# Altium schematic symbol library EDP_schematic.SchLib: 41 symbols (part 1 of 2)
Pins are listed as number, name and electrical type; pins without a type are passive.

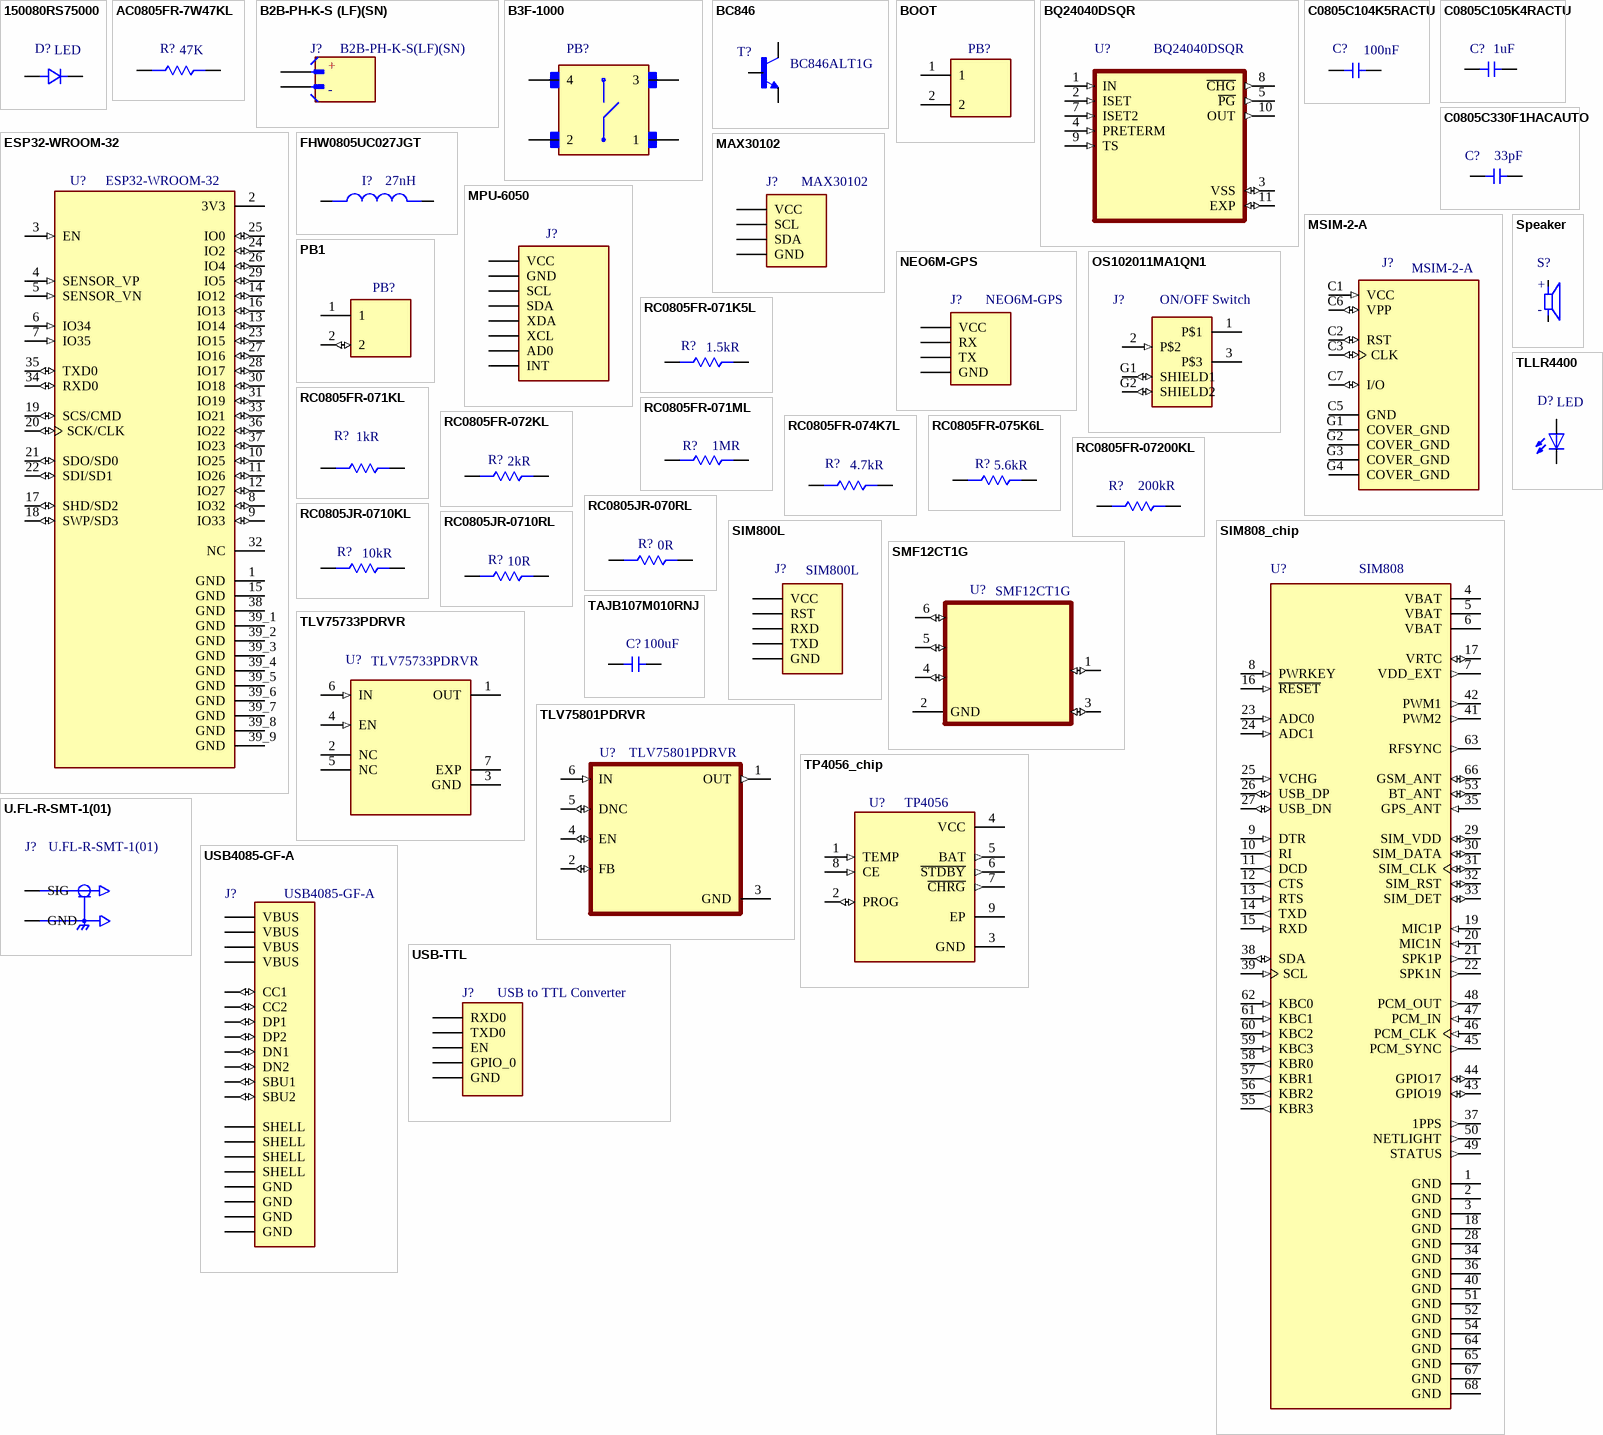
[diagram p0: symbols 150080RS75000 to USB-TTL]

## 150080RS75000
designator D?, comment LED
Single Color LED, Red, Water Clear, 1.4mm; Manufacturer: Wurth Electronics; Manufacturer Part Number: 150080RS75000; Shape: Rectangular; Forward Current: 30mA; Luminous Intensity-Nom: 150mcd; Channels: 1; Viewing Angle: 140°; Overall Height: 0.7mm; Supplier: Digikey; Supplier Part Number: 732-4984-1-ND; RoHS: Yes; Category: LEDs; Stock: 56216; Pricing: 1=0.19, 50=0.176, 100=0.151, 500=0.14688 (USD); Mounting Technology: Surface Mount; Pins: 2; Color: Red; Min Operating Temperature: -40°C; Max Operating Temperature: 85°C; Lens Style: WATER CLEAR; Optoelectronic Device Type: SINGLE COLOR LED; Packaging: Tape and Reel; Size: 1.4mm; Terminal Pitch: 2.1mm; Reach SVHC Compliant: Yes; RoHS Compliant: Yes; ComponentLink1URL: https://datasheet.ciiva.com:443/pdfs/VipMasterIC/IC/MIDC/MIDC-S-A0007455974/MIDC-S-A0007455974-1.pdf?src-supplier=IHS+Markit; ComponentLink1Description: https://datasheet.ciiva.com:443/pdfs/VipMasterIC/IC/MIDC/MIDC-S-A0007455974/MIDC-S-A0007455974-1.pdf?src-supplier=IHS+Markit; ComponentLink2URL: https://datasheet.ciiva.com/22656/150080rs75000-22656961.pdf?src-supplier=Element14; ComponentLink2Description: https://datasheet.ciiva.com/22656/150080rs75000-22656961.pdf?src-supplier=Element14; ComponentLink3URL: https://datasheet.ciiva.com/29279/759435-da-01-en-chipled-0805-w-kl-rot-150080rs75000-29279032.pdf?src-supplier=Conrad; ComponentLink3Description: https://datasheet.ciiva.com/29279/759435-da-01-en-chipled-0805-w-kl-rot-150080rs75000-29279032.pdf?src-supplier=Conrad
footprint 150080RS75000
pins: 1, 2

## AC0805FR-7W47KL
designator R?  value 47K  (hidden comment: *)
Fixed Resistor, Metal Glaze/thick Film, 0.25W, 47000ohm, 150V, 1% +/-Tol, 100ppm/Cel, Surface Mount, 0805; Manufacturer: Yageo; Manufacturer Part Number: AC0805FR-7W47KL; Supplier: Digikey; Supplier Part Number: 13-AC0805FR-7W47KLCT-ND; RoHS: Yes; Category: Chip SMD Resistors; Stock: 9947; Pricing: 1=0.1, 10=0.037, 100=0.0286, 1000=0.01428 (USD)
footprint AC0805FR-7W47KL
pins: 1, 2

## B2B-PH-K-S (LF)(SN)
designator J?  Manufacturer Part Number: B2B-PH-K-S(LF)(SN)  (hidden comment: *)
Board Connector, 2 Contact(s), 1 Row(s), Male, Straight, 0.079 inch Pitch, Solder Terminal, Locking, Natural Insulator; Manufacturer: JST; Supplier: Arrow Electronics; Supplier Part Number: B2B-PH-K-S(LF)(SN); RoHS: Yes; Category: Headers and Wire Housings; Stock: 109655; Pricing: 1=0.1137, 10=0.0604, 25=0.0597, 100=0.0592, 500=0.0585, 1000=0.0562 (USD); ComponentLink1URL: https://datasheet.ciiva.com:443/pdfs/VipMasterIC/IC/JSTM/JSTM-S-A0007943211/JSTM-S-A0007943211-1.pdf?src-supplier=IHS+Markit; ComponentLink1Description: https://datasheet.ciiva.com:443/pdfs/VipMasterIC/IC/JSTM/JSTM-S-A0007943211/JSTM-S-A0007943211-1.pdf?src-supplier=IHS+Markit; ComponentLink2URL: https://datasheet.ciiva.com/11746/0900766b8082f551-11746676.pdf?src-supplier=Rs; ComponentLink2Description: https://datasheet.ciiva.com/11746/0900766b8082f551-11746676.pdf?src-supplier=Rs; ComponentLink3URL: https://datasheet.ciiva.com/16422/b2b-ph-k-slfsn-16422715.pdf?src-supplier=Future+Electronics; ComponentLink3Description: https://datasheet.ciiva.com/16422/b2b-ph-k-slfsn-16422715.pdf?src-supplier=Future+Electronics
footprint B2B-PH-K-S (LF)(SN)
pins: 1, 2
text: +; -

## B3F-1000
designator PB?  (value not drawn)
footprint SW_B3F-1000
pins: 1, 2, 3, 4

## BC846
designator T?  Manufacturer Part Number: BC846ALT1G  (hidden comment: *)
Small Signal Bipolar Transistor, 0.1A I(C), 65V V(BR)CEO, 1-Element, NPN, Silicon, TO-236; Manufacturer: ON Semiconductor; Package Body Material: Plastic; Max Collector Current: 100mA; DC Current Gain-Min (hFE): 110; Number of Elements: 1; Frequency: 100MHz; Power Dissipation-Max (Abs): 225mW; Time @ Peak Reflow Temperature-Max (s): 40s; Transistor Application: SWITCHING; Qualification Status: Not Qualified; Supplier: Digikey; Supplier Part Number: BC846ALT1GOSCT-ND; RoHS: Yes; Category: BJTs; Stock: 87741; Pricing: 1=0.12, 10=0.075, 100=0.0458, 500=0.03304, 1000=0.02888 (USD); Pins: 3; Package Shape: Rectangular; Terminal Finish: Tin; Transistor Element Material: SILICON; Max Operating Temperature: 150°C; JESD-609 Code: e3; JESD-30 Code: R-PDSO-G3; Surface Mount: Yes; Terminal Form: Gull Wing; Terminal Position: DUAL; Polarity/Channel Type: NPN; Collector-emitter Voltage-Max: 65V; Moisture Sensitivity Level: 1; Package Style: SMALL OUTLINEMeter; Peak Reflow Temperature (Cel): 260°C; Reach SVHC Compliant: Yes; RoHS Compliant: Yes; JEDEC-95 Code: TO-236; ComponentLink1URL: https://datasheet.ciiva.com:443/pdfs/VipMasterIC/IC/ONSM/ONSM-S-A0009451914/ONSM-S-A0009451914-1.pdf?src-supplier=IHS+Markit; ComponentLink1Description: https://datasheet.ciiva.com:443/pdfs/VipMasterIC/IC/ONSM/ONSM-S-A0009451914/ONSM-S-A0009451914-1.pdf?src-supplier=IHS+Markit
footprint BC846
pins: 1 B, 2 E, 3 C

## BOOT
designator PB?  (value not drawn)
footprint PB1
pins: 1 (power), 2 (power)

## BQ24040DSQR
designator U?  Manufacturer Part Number: BQ24040DSQR  (hidden comment: *)
Power Supply Support Circuit, Adjustable, 1 Channel, 6.65, PDSO10; Manufacturer: Texas Instruments; Package Body Material: Plastic; Adjustable Threshold: Yes; Number of Channels: 1; Power Supplies: 4.5/28V; Supply Current-Max (Isup): 1mA; Max Supply Voltage: 28V; Min Supply Voltage: 3.5V; Nominal Supply Voltage: 5V; Qualification Status: Not Qualified; Supplier: Digikey; Supplier Part Number: 296-37142-1-ND; RoHS: Yes; Category: Battery Management; Stock: 7921; Pricing: 1=0.78, 10=0.556, 25=0.4996, 100=0.4382, 250=0.4088, 500=0.39106, 1000=0.37649 (USD); Case/Package: HVSON; Pins: 10; Package Shape: Square; Terminal Finish: Nickel; Min Operating Temperature: -40°C; Max Operating Temperature: 85°C; JESD-609 Code: e4; Throw Configuration: POWER SUPPLY SUPPORT CIRCUIT; JESD-30 Code: S-PDSO-N10; Moisture Sensitivity Level: 2; Channels: 1; Package Style: SMALL OUTLINE, HEAT SINK/SLUG, VERY THIN PROFILEMeter; Peak Reflow Temperature (Cel): 260°C; Surface Mount: Yes; Terminal Form: No Lead; Terminal Position: DUAL; Length: 2mm; Width: 2mm; Height - Seated (Max): 0.8mm; Terminal Pitch: 0.4mm; Temperature Grade: INDUSTRIAL; Reach SVHC Compliant: Yes; RoHS Compliant: Yes; ComponentLink1URL: https://www.ti.com:443/lit/ds/symlink/bq24040.pdf?src-supplier=IHS+Markit; ComponentLink1Description: https://www.ti.com:443/lit/ds/symlink/bq24040.pdf?src-supplier=IHS+Markit; ComponentLink2URL: https://datasheet.ciiva.com/29610/bq24040-29610101.pdf?src-supplier=Digikey; ComponentLink2Description: https://datasheet.ciiva.com/29610/bq24040-29610101.pdf?src-supplier=Digikey; ComponentLink3URL: https://datasheet.ciiva.com/29610/bq24040-29610103.pdf?src-supplier=Digikey; ComponentLink3Description: https://datasheet.ciiva.com/29610/bq24040-29610103.pdf?src-supplier=Digikey; ComponentLink4URL: https://datasheet.ciiva.com/29610/bq24040-29610104.pdf?src-supplier=Digikey; ComponentLink4Description: https://datasheet.ciiva.com/29610/bq24040-29610104.pdf?src-supplier=Digikey
footprint BQ24040DSQR
pins: 1 IN (in), 2 ISET (in), 3 VSS (io), 4 PRETERM (in), 5 ~{PG} (out), 7 ISET2 (in), 8 ~{CHG} (out), 9 TS (in), 10 OUT (out), 11 EXP (io)

## C0805C104K5RACTU
designator C?  value 100nF  (hidden comment: *)
Ceramic Capacitor, Multilayer, Ceramic, 50V, 10% +Tol, 10% -Tol, X7R, 15% TC, 0.1uF, Surface Mount, 0805; Manufacturer: KEMET; Manufacturer Part Number: C0805C104K5RACTU; Multilayer: Yes; Supplier: Digikey; Supplier Part Number: 399-C0805C104K5RACTUTR-ND; RoHS: Yes; Category: Ceramic Capacitors; Stock: 495390; Pricing: 4000=0.0224, 8000=0.016, 12000=0.0148 (USD); Mounting Technology: Surface Mount; Pins: 2; Dielectric Material: Ceramic; Package Shape: Rectangular; Case/Package: 0805; Terminal Finish: Nickel; Min Operating Temperature: -55°C; Max Operating Temperature: 125°C; JESD-609 Code: e3; Capacitor Type: Ceramic; Tolerance  (fill in as +-): 10%; Package Style: SMTMeter; Packaging: Tape and Reel; Tolerance (fill in as +-): 10%; Rated DC Voltage (URdc): 50V; Temperature Characteristics Code: X7R; Termination: Wraparound; Length: 2mm; Width: 1.25mm; Height: 0.78mm; Reach SVHC Compliant: Yes; RoHS Compliant: Yes; ComponentLink1URL: https://datasheet.ciiva.com:443/pdfs/VipMasterIC/IC/KEME/KEME-S-A0008991654/KEME-S-A0008991654-1.pdf?src-supplier=IHS+Markit; ComponentLink1Description: https://datasheet.ciiva.com:443/pdfs/VipMasterIC/IC/KEME/KEME-S-A0008991654/KEME-S-A0008991654-1.pdf?src-supplier=IHS+Markit; ComponentLink2URL: https://datasheet.ciiva.com/32431/slceramic-chip-condensers-e-32431755.pdf?src-supplier=Distrelec; ComponentLink2Description: https://datasheet.ciiva.com/32431/slceramic-chip-condensers-e-32431755.pdf?src-supplier=Distrelec; ComponentLink3URL: https://datasheet.ciiva.com/28682/1851736-28682232.pdf?src-supplier=Element14; ComponentLink3Description: https://datasheet.ciiva.com/28682/1851736-28682232.pdf?src-supplier=Element14; ComponentLink4URL: https://datasheet.ciiva.com/18410/70095383-18410815.pdf?src-supplier=Allied+Electronics; ComponentLink4Description: https://datasheet.ciiva.com/18410/70095383-18410815.pdf?src-supplier=Allied+Electronics; ComponentLink5URL: https://datasheet.ciiva.com/14589/70095383-14589048.pdf?src-supplier=Allied+Electronics; ComponentLink5Description: https://datasheet.ciiva.com/14589/70095383-14589048.pdf?src-supplier=Allied+Electronics
footprint C0805C104K5RACTU
pins: 1, 2

## C0805C105K4RACTU
designator C?  value 1uF  (hidden comment: *)
Ceramic Capacitor, Multilayer, Ceramic, 16V, 10% +Tol, 10% -Tol, X7R, 15% TC, 1uF, Surface Mount, 0805; Manufacturer: KEMET; Manufacturer Part Number: C0805C105K4RACTU; Multilayer: Yes; Supplier: Digikey; Supplier Part Number: 399-C0805C105K4RACTUCT-ND; RoHS: Yes; Category: Ceramic Capacitors; Stock: 386670; Pricing: 1=0.12, 10=0.068, 100=0.041, 1000=0.03184 (USD); Mounting Technology: Surface Mount; Pins: 2; Dielectric Material: Ceramic; Package Shape: Rectangular; Case/Package: 0805; Terminal Finish: Nickel; Min Operating Temperature: -55°C; Max Operating Temperature: 125°C; JESD-609 Code: e3; Capacitor Type: Ceramic; Tolerance  (fill in as +-): 10%; Packaging: Tape and Reel; Tolerance (fill in as +-): 10%; Rated DC Voltage (URdc): 16V; Temperature Characteristics Code: X7R; Termination: Wraparound; Package Style: SMTMeter; Length: 2mm; Width: 1.25mm; Height: 0.9mm; Reach SVHC Compliant: Yes; RoHS Compliant: Yes; ComponentLink1URL: https://datasheet.ciiva.com:443/pdfs/VipMasterIC/IC/KEME/KEME-S-A0008991654/KEME-S-A0008991654-1.pdf?src-supplier=IHS+Markit; ComponentLink1Description: https://datasheet.ciiva.com:443/pdfs/VipMasterIC/IC/KEME/KEME-S-A0008991654/KEME-S-A0008991654-1.pdf?src-supplier=IHS+Markit; ComponentLink2URL: https://datasheet.ciiva.com/6074/1722731-6074364.pdf?src-supplier=Farnell; ComponentLink2Description: https://datasheet.ciiva.com/6074/1722731-6074364.pdf?src-supplier=Farnell; ComponentLink3URL: https://datasheet.ciiva.com/28692/1851736-28692942.pdf?src-supplier=Element14; ComponentLink3Description: https://datasheet.ciiva.com/28692/1851736-28692942.pdf?src-supplier=Element14; ComponentLink4URL: https://datasheet.ciiva.com/14585/70095383-14585511.pdf?src-supplier=Allied+Electronics; ComponentLink4Description: https://datasheet.ciiva.com/14585/70095383-14585511.pdf?src-supplier=Allied+Electronics; ComponentLink5URL: https://datasheet.ciiva.com/14603/70095383-14603388.pdf?src-supplier=Allied+Electronics; ComponentLink5Description: https://datasheet.ciiva.com/14603/70095383-14603388.pdf?src-supplier=Allied+Electronics; ComponentLink6URL: https://datasheet.ciiva.com/45846/docfinderpartnumberc0402c102k5ractu-45846934.pdf?src-supplier=Onlinecomponents.com; ComponentLink6Description: https://datasheet.ciiva.com/45846/docfinderpartnumberc0402c102k5ractu-45846934.pdf?src-supplier=Onlinecomponents.com
footprint C0805C105K4RACTU
pins: 1, 2

## C0805C330F1HACAUTO
designator C?  value 33pF  (hidden comment: *)
Ceramic Capacitor, Multilayer, Ceramic, 100V, 1% +Tol, 1% -Tol, X8R, 15% TC, 0.000033uF, Surface Mount, 0805; Manufacturer: KEMET; Manufacturer Part Number: C0805C330F1HACAUTO; Supplier: Digikey; Supplier Part Number: C0805C330F1HACAUTO-ND; RoHS: Yes; Category: Ceramic Capacitors; Pricing: 4000=0.05843 (USD); Pins: 2; Dielectric Material: Ceramic; Capacitor Type: Ceramic; Reach SVHC Compliant: Yes; RoHS Compliant: Yes; ComponentLink1URL: https://datasheet.ciiva.com:443/pdfs/VipMasterIC/IC/KEME/KEME-S-A0008958458/KEME-S-A0008958458-1.pdf?src-supplier=IHS+Markit; ComponentLink1Description: https://datasheet.ciiva.com:443/pdfs/VipMasterIC/IC/KEME/KEME-S-A0008958458/KEME-S-A0008958458-1.pdf?src-supplier=IHS+Markit
footprint C0805C330F1HACAUTO
pins: 1, 2

## ESP32-WROOM-32
designator U?
Bluetooth, WiFi 802.11b/g/n, Bluetooth v4.2 +EDR, Class 1, 2 and 3 Transceiver Module 2.4GHz ~ 2.5GHz Antenna Not Included, U.FL Surface Mount
footprint ESP32-WROOM-32_chip
pins: 1 GND (power), 2 3V3 (power), 3 EN (in), 4 SENSOR_VP (in), 5 SENSOR_VN (in), 6 IO34 (in), 7 IO35 (in), 8 IO32 (io), 9 IO33 (io), 10 IO25 (io), 11 IO26 (io), 12 IO27 (io), 13 IO14 (io), 14 IO12 (io), 15 GND (power), 16 IO13 (io), 17 SHD/SD2 (io), 18 SWP/SD3 (io), 19 SCS/CMD (io), 20 SCK/CLK (io), 21 SDO/SD0 (io), 22 SDI/SD1 (io), 23 IO15 (io), 24 IO2 (io), 25 IO0 (io), 26 IO4 (io), 27 IO16 (io), 28 IO17 (io), 29 IO5 (io), 30 IO18 (io), 31 IO19 (io), 32 NC, 33 IO21 (io), 34 RXD0 (io), 35 TXD0 (io), 36 IO22 (io), 37 IO23 (io), 38 GND (power), 39_1 GND (power), 39_2 GND (power), 39_3 GND (power), 39_4 GND (power), 39_5 GND (power), 39_6 GND (power), 39_7 GND (power), 39_8 GND (power), 39_9 GND (power)

## FHW0805UC027JGT
designator I?, comment 27nH
footprint FHW0805UC027JGT
pins: 1, 2

## MAX30102
designator J?  (value not drawn)
footprint MAX30102_footprint
pins: 01 VCC, 02 SCL, 03 SDA, 04 GND

## MPU-6050
designator J?  (value not drawn)
Board Stacking Connector, 14 Contact(s), 1 Row(s), Male, Straight, Solder Terminal; Manufacturer: Samtec; Manufacturer Part Number: MTLW-114-07-T-S-235; Option: General Purpose; Filter Feature: No; Number of Rows Loaded: 1; Number of Contacts: 14; Supplier: Digikey; Supplier Part Number: 612-MTLW-114-07-T-S-235-ND; RoHS: Yes; Category: Connectors; Pricing: 1=1.97 (USD); Mounting Technology: Board; Connector Type: BOARD STACKING CONNECTOR; Contact Gender: Male; Mixed Contacts: No; Mounting Style: STRAIGHT; Termination: Solder; Terminal Pitch: 2.54mm; Flammability Rating: UL94 V-0; DIN Conformance: No; IEC Conformance: No; MIL Conformance: No; Reach SVHC Compliant: Yes; RoHS Compliant: Yes; ComponentLink1URL: https://datasheet.ciiva.com:443/pdfs/VipMasterIC/IC/SAMI/SAMI-S-A0001769147/SAMI-S-A0001769147-1.pdf?src-supplier=IHS+Markit; ComponentLink1Description: https://datasheet.ciiva.com:443/pdfs/VipMasterIC/IC/SAMI/SAMI-S-A0001769147/SAMI-S-A0001769147-1.pdf?src-supplier=IHS+Markit; ComponentLink2URL: https://datasheet.ciiva.com/10029/mtlw-th-10029781.pdf?src-supplier=Avnet; ComponentLink2Description: https://datasheet.ciiva.com/10029/mtlw-th-10029781.pdf?src-supplier=Avnet
footprint MPU-6050
pins: 01 VCC, 02 GND, 03 SCL, 04 SDA, 05 XDA, 06 XCL, 07 AD0, 08 INT

## MSIM-2-A
designator J?  Manufacturer Part Number: MSIM-2-A  (hidden comment: *)
Micro Sim Card Connector, 6 Posi; Manufacturer: Same Sky; Supplier: Digikey; Supplier Part Number: 2223-MSIM-2-ACT-ND; RoHS: No; Stock: 1635; Pricing: 1=0.74, 10=0.656, 25=0.6248, 50=0.6026, 100=0.5811, 250=0.55396, 500=0.53426 (USD)
footprint MSIM-2-A
pins: C1 VCC (in), C2 RST (io), C3 CLK (io), C5 GND (power), C6 VPP (io), C7 I/O (io), G1 COVER_GND (power), G2 COVER_GND (power), G3 COVER_GND (power), G4 COVER_GND (power)

## NEO6M-GPS
designator J?  (value not drawn)
footprint NEO6M-GPS
pins: 01 VCC, 02 RX, 03 TX, 04 GND

## OS102011MA1QN1
designator J?  (value not drawn)
footprint OS102011MA1QN1_connector
pins: 1 P$1 (power), 2 P$2 (in), 3 P$3 (power), G1 SHIELD1 (io), G2 SHIELD2 (io)
text: ON/OFF Switch

## PB1
designator PB?  (value not drawn)
footprint PB1
pins: 1 (power), 2 (io)

## RC0805FR-071K5L
designator R?  value 1.5kR  (hidden comment: *)
Fixed Resistor, Metal Glaze/thick Film, 0.125W, 1500ohm, 150V, 1% +/-Tol, 100ppm/Cel, Surface Mount, 0805; Manufacturer: Yageo; Manufacturer Part Number: RC0805FR-071K5L; Additional Feature: LASER TRIMMABLE; Power: 125mW; Rated Temperature: 70°C; Temperature Coefficient (ppm/Cel): 100; Package Height: 0.5mm; Package Length: 2mm; Package Width: 1.25mm; Supplier: Digikey; Supplier Part Number: 311-1.50KCRCT-ND; RoHS: Yes; Category: Chip SMD Resistors; Stock: 226709; Pricing: 1=0.1, 10=0.012, 100=0.0112, 1000=0.00918, 2500=0.00686 (USD); Mounting Technology: Surface Mount; Pins: 2; Package Shape: Rectangular; Case/Package: 0805; Terminal Finish: Nickel; Min Operating Temperature: -55°C; Max Operating Temperature: 155°C; Tolerance: 1%; JESD-609 Code: e3; Termination: Wraparound; Resistor Type: FIXED RESISTOR; Construction: Chip; Packaging: Tape and Reel; Technology: METAL GLAZE/THICK FILM; Working Voltage: 150V; Reach SVHC Compliant: Yes; RoHS Compliant: Yes; ComponentLink1URL: https://datasheet.ciiva.com:443/pdfs/VipMasterIC/IC/YAGO/YAGO-S-A0008145938/YAGO-S-A0008145938-1.pdf?src-supplier=IHS+Markit; ComponentLink1Description: https://datasheet.ciiva.com:443/pdfs/VipMasterIC/IC/YAGO/YAGO-S-A0008145938/YAGO-S-A0008145938-1.pdf?src-supplier=IHS+Markit; ComponentLink2URL: https://datasheet.ciiva.com/17423/rc0805-17423247.pdf?src-supplier=Future+Electronics; ComponentLink2Description: https://datasheet.ciiva.com/17423/rc0805-17423247.pdf?src-supplier=Future+Electronics
footprint RC0805FR-071K5L
pins: 1, 2

## RC0805FR-071KL
designator R?  value 1kR  (hidden comment: *)
Fixed Resistor, Metal Glaze/thick Film, 0.125W, 1000ohm, 150V, 1% +/-Tol, 100ppm/Cel, Surface Mount, 0805; Manufacturer: Yageo; Manufacturer Part Number: RC0805FR-071KL; Additional Feature: LASER TRIMMABLE; Power: 125mW; Rated Temperature: 70°C; Temperature Coefficient (ppm/Cel): 100; Package Height: 0.5mm; Package Length: 2mm; Package Width: 1.25mm; Supplier: Digikey; Supplier Part Number: 311-1.00KCRTR-ND; RoHS: Yes; Category: Chip SMD Resistors; Stock: 465000; Pricing: 5000=0.00408, 10000=0.00396, 15000=0.00374, 25000=0.00356 (USD); Mounting Technology: Surface Mount; Pins: 2; Package Shape: Rectangular; Case/Package: 0805; Terminal Finish: Nickel; Min Operating Temperature: -55°C; Max Operating Temperature: 155°C; Tolerance: 1%; JESD-609 Code: e3; Termination: Wraparound; Resistor Type: FIXED RESISTOR; Construction: Chip; Packaging: Tape and Reel; Technology: METAL GLAZE/THICK FILM; Working Voltage: 150V; Reach SVHC Compliant: Yes; RoHS Compliant: Yes; ComponentLink1URL: https://datasheet.ciiva.com:443/pdfs/VipMasterIC/IC/YAGO/YAGO-S-A0008145938/YAGO-S-A0008145938-1.pdf?src-supplier=IHS+Markit; ComponentLink1Description: https://datasheet.ciiva.com:443/pdfs/VipMasterIC/IC/YAGO/YAGO-S-A0008145938/YAGO-S-A0008145938-1.pdf?src-supplier=IHS+Markit; ComponentLink2URL: https://datasheet.ciiva.com/7941/1686128-7941719.pdf?src-supplier=Element14; ComponentLink2Description: https://datasheet.ciiva.com/7941/1686128-7941719.pdf?src-supplier=Element14; ComponentLink3URL: https://datasheet.ciiva.com/46385/444164-46385020.pdf?src-supplier=Element14; ComponentLink3Description: https://datasheet.ciiva.com/46385/444164-46385020.pdf?src-supplier=Element14; ComponentLink4URL: https://datasheet.ciiva.com/2456/pyu-r-int-thick-7-2456976.pdf?src-supplier=Digikey; ComponentLink4Description: https://datasheet.ciiva.com/2456/pyu-r-int-thick-7-2456976.pdf?src-supplier=Digikey; ComponentLink5URL: https://datasheet.ciiva.com/2456/pyu-r-int-thick-7-2456977.pdf?src-supplier=Digikey; ComponentLink5Description: https://datasheet.ciiva.com/2456/pyu-r-int-thick-7-2456977.pdf?src-supplier=Digikey; ComponentLink6URL: https://datasheet.ciiva.com/2456/pyu-r-int-thick-7-2456975.pdf?src-supplier=Digikey; ComponentLink6Description: https://datasheet.ciiva.com/2456/pyu-r-int-thick-7-2456975.pdf?src-supplier=Digikey; ComponentLink7URL: https://datasheet.ciiva.com/16850/rc0805-16850409.pdf?src-supplier=Future+Electronics; ComponentLink7Description: https://datasheet.ciiva.com/16850/rc0805-16850409.pdf?src-supplier=Future+Electronics
footprint RC0805FR-071KL
pins: 1, 2

## RC0805FR-071ML
designator R?  value 1MR  (hidden comment: *)
Fixed Resistor, Metal Glaze/thick Film, 0.125W, 1000000ohm, 150V, 1% +/-Tol, 100ppm/Cel, Surface Mount, 0805; Manufacturer: Yageo; Manufacturer Part Number: RC0805FR-071ML; Additional Feature: LASER TRIMMABLE; Power: 125mW; Rated Temperature: 70°C; Temperature Coefficient (ppm/Cel): 100; Package Height: 0.5mm; Package Length: 2mm; Package Width: 1.25mm; Supplier: Digikey; Supplier Part Number: 311-1.00MCRTR-ND; RoHS: Yes; Category: Chip SMD Resistors; Stock: 95000; Pricing: 5000=0.00408, 10000=0.00357, 15000=0.00357, 250000=0.00337, 500000=0.00321 (USD); Mounting Technology: Surface Mount; Pins: 2; Package Shape: Rectangular; Case/Package: 0805; Terminal Finish: Nickel; Min Operating Temperature: -55°C; Max Operating Temperature: 155°C; Tolerance: 1%; JESD-609 Code: e3; Termination: Wraparound; Resistor Type: FIXED RESISTOR; Construction: Chip; Packaging: Tape and Reel; Technology: METAL GLAZE/THICK FILM; Working Voltage: 150V; Reach SVHC Compliant: Yes; RoHS Compliant: Yes; ComponentLink1URL: https://datasheet.ciiva.com:443/pdfs/VipMasterIC/IC/YAGO/YAGO-S-A0008145938/YAGO-S-A0008145938-1.pdf?src-supplier=IHS+Markit; ComponentLink1Description: https://datasheet.ciiva.com:443/pdfs/VipMasterIC/IC/YAGO/YAGO-S-A0008145938/YAGO-S-A0008145938-1.pdf?src-supplier=IHS+Markit
footprint RC0805FR-071ML
pins: 1, 2

## RC0805FR-072KL
designator R?  value 2kR  (hidden comment: *)
Fixed Resistor, Metal Glaze/thick Film, 0.125W, 2000ohm, 150V, 1% +/-Tol, 100ppm/Cel, Surface Mount, 0805; Manufacturer: Yageo; Manufacturer Part Number: RC0805FR-072KL; Additional Feature: LASER TRIMMABLE; Power: 125mW; Rated Temperature: 70°C; Temperature Coefficient (ppm/Cel): 100; Package Height: 0.5mm; Package Length: 2mm; Package Width: 1.25mm; Supplier: Digikey; Supplier Part Number: 311-2.00KCRDKR-ND; RoHS: Yes; Category: Chip SMD Resistors; Stock: 202064; Pricing: 1=0.1, 10=0.014, 100=0.0112, 1000=0.00816, 2500=0.00686 (USD); Mounting Technology: Surface Mount; Pins: 2; Package Shape: Rectangular; Case/Package: 0805; Terminal Finish: Nickel; Min Operating Temperature: -55°C; Max Operating Temperature: 155°C; Tolerance: 1%; Termination: Wraparound; JESD-609 Code: e3; Resistor Type: FIXED RESISTOR; Construction: Chip; Packaging: Tape and Reel; Technology: METAL GLAZE/THICK FILM; Working Voltage: 150V; Reach SVHC Compliant: Yes; RoHS Compliant: Yes; ComponentLink1URL: https://datasheet.ciiva.com:443/pdfs/VipMasterIC/IC/YAGO/YAGO-S-A0008145938/YAGO-S-A0008145938-1.pdf?src-supplier=IHS+Markit; ComponentLink1Description: https://datasheet.ciiva.com:443/pdfs/VipMasterIC/IC/YAGO/YAGO-S-A0008145938/YAGO-S-A0008145938-1.pdf?src-supplier=IHS+Markit; ComponentLink2URL: https://datasheet.ciiva.com/11819/0900766b8106beab-11819830.pdf?src-supplier=Rs; ComponentLink2Description: https://datasheet.ciiva.com/11819/0900766b8106beab-11819830.pdf?src-supplier=Rs; ComponentLink3URL: https://datasheet.ciiva.com/46395/444164-46395128.pdf?src-supplier=Element14; ComponentLink3Description: https://datasheet.ciiva.com/46395/444164-46395128.pdf?src-supplier=Element14; ComponentLink4URL: https://datasheet.ciiva.com/2457/pyu-r-int-thick-7-2457028.pdf?src-supplier=Digikey; ComponentLink4Description: https://datasheet.ciiva.com/2457/pyu-r-int-thick-7-2457028.pdf?src-supplier=Digikey; ComponentLink5URL: https://datasheet.ciiva.com/2457/pyu-r-int-thick-7-2457026.pdf?src-supplier=Digikey; ComponentLink5Description: https://datasheet.ciiva.com/2457/pyu-r-int-thick-7-2457026.pdf?src-supplier=Digikey; ComponentLink6URL: https://datasheet.ciiva.com/12667/rc0805-12667946.pdf?src-supplier=Mouser; ComponentLink6Description: https://datasheet.ciiva.com/12667/rc0805-12667946.pdf?src-supplier=Mouser; ComponentLink7URL: https://datasheet.ciiva.com/2457/pyu-r-int-thick-7-2457027.pdf?src-supplier=Digikey; ComponentLink7Description: https://datasheet.ciiva.com/2457/pyu-r-int-thick-7-2457027.pdf?src-supplier=Digikey
footprint RC0805FR-072KL
pins: 1, 2

## RC0805FR-074K7L
designator R?  value 4.7kR  (hidden comment: *)
Fixed Resistor, Metal Glaze/thick Film, 0.125W, 4700ohm, 150V, 1% +/-Tol, 100ppm/Cel, Surface Mount, 0805; Manufacturer: Yageo; Manufacturer Part Number: RC0805FR-074K7L; Additional Feature: LASER TRIMMABLE; Power: 125mW; Rated Temperature: 70°C; Temperature Coefficient (ppm/Cel): 100; Package Height: 0.5mm; Package Length: 2mm; Package Width: 1.25mm; Supplier: Digikey; Supplier Part Number: 311-4.70KCRDKR-ND; RoHS: Yes; Category: Chip SMD Resistors; Pricing: 1=0.1, 10=0.016, 100=0.0112, 1000=0.00714, 2500=0.00686 (USD); Mounting Technology: Surface Mount; Pins: 2; Package Shape: Rectangular; Case/Package: 0805; Terminal Finish: Nickel; Min Operating Temperature: -55°C; Max Operating Temperature: 155°C; Tolerance: 1%; Termination: Wraparound; JESD-609 Code: e3; Resistor Type: FIXED RESISTOR; Construction: Chip; Packaging: Tape and Reel; Technology: METAL GLAZE/THICK FILM; Working Voltage: 150V; Reach SVHC Compliant: Yes; RoHS Compliant: Yes; ComponentLink1URL: https://datasheet.ciiva.com:443/pdfs/VipMasterIC/IC/YAGO/YAGO-S-A0008145938/YAGO-S-A0008145938-1.pdf?src-supplier=IHS+Markit; ComponentLink1Description: https://datasheet.ciiva.com:443/pdfs/VipMasterIC/IC/YAGO/YAGO-S-A0008145938/YAGO-S-A0008145938-1.pdf?src-supplier=IHS+Markit; ComponentLink2URL: https://datasheet.ciiva.com/11808/0900766b8106beab-11808155.pdf?src-supplier=Rs; ComponentLink2Description: https://datasheet.ciiva.com/11808/0900766b8106beab-11808155.pdf?src-supplier=Rs; ComponentLink3URL: https://datasheet.ciiva.com/7941/444164-7941804.pdf?src-supplier=Element14; ComponentLink3Description: https://datasheet.ciiva.com/7941/444164-7941804.pdf?src-supplier=Element14; ComponentLink4URL: https://datasheet.ciiva.com/7941/1686128-7941805.pdf?src-supplier=Element14; ComponentLink4Description: https://datasheet.ciiva.com/7941/1686128-7941805.pdf?src-supplier=Element14; ComponentLink5URL: https://datasheet.ciiva.com/46447/444164-46447583.pdf?src-supplier=Element14; ComponentLink5Description: https://datasheet.ciiva.com/46447/444164-46447583.pdf?src-supplier=Element14; ComponentLink6URL: https://datasheet.ciiva.com/6547/pyu-r-int-thick-7-6547263.pdf?src-supplier=Digikey; ComponentLink6Description: https://datasheet.ciiva.com/6547/pyu-r-int-thick-7-6547263.pdf?src-supplier=Digikey; ComponentLink7URL: https://datasheet.ciiva.com/7941/444164-7941806.pdf?src-supplier=Element14; ComponentLink7Description: https://datasheet.ciiva.com/7941/444164-7941806.pdf?src-supplier=Element14
footprint RC0805FR-074K7L
pins: 1, 2

## RC0805FR-075K6L
designator R?  value 5.6kR  (hidden comment: *)
Fixed Resistor, Metal Glaze/thick Film, 0.125W, 5600ohm, 150V, 1% +/-Tol, 100ppm/Cel, Surface Mount, 0805; Manufacturer: Yageo; Manufacturer Part Number: RC0805FR-075K6L; Additional Feature: LASER TRIMMABLE; Power: 125mW; Rated Temperature: 70°C; Temperature Coefficient (ppm/Cel): 100; Package Height: 0.5mm; Package Length: 2mm; Package Width: 1.25mm; Supplier: Digikey; Supplier Part Number: 311-5.60KCRCT-ND; RoHS: Yes; Category: Chip SMD Resistors; Stock: 33601; Pricing: 1=0.1, 10=0.014, 100=0.0102, 1000=0.00816, 2500=0.00686 (USD); Mounting Technology: Surface Mount; Pins: 2; Package Shape: Rectangular; Case/Package: 0805; Terminal Finish: Nickel; Min Operating Temperature: -55°C; Max Operating Temperature: 155°C; Tolerance: 1%; JESD-609 Code: e3; Resistor Type: FIXED RESISTOR; Construction: Chip; Packaging: Tape and Reel; Technology: METAL GLAZE/THICK FILM; Termination: Wraparound; Working Voltage: 150V; Reach SVHC Compliant: Yes; RoHS Compliant: Yes; ComponentLink1URL: https://datasheet.ciiva.com:443/pdfs/VipMasterIC/IC/YAGO/YAGO-S-A0008145938/YAGO-S-A0008145938-1.pdf?src-supplier=IHS+Markit; ComponentLink1Description: https://datasheet.ciiva.com:443/pdfs/VipMasterIC/IC/YAGO/YAGO-S-A0008145938/YAGO-S-A0008145938-1.pdf?src-supplier=IHS+Markit; ComponentLink2URL: https://datasheet.ciiva.com/2519/pyu-r-int-thick-7-2519845.pdf?src-supplier=Digikey; ComponentLink2Description: https://datasheet.ciiva.com/2519/pyu-r-int-thick-7-2519845.pdf?src-supplier=Digikey; ComponentLink3URL: https://datasheet.ciiva.com/2519/pyu-r-int-thick-7-2519843.pdf?src-supplier=Digikey; ComponentLink3Description: https://datasheet.ciiva.com/2519/pyu-r-int-thick-7-2519843.pdf?src-supplier=Digikey; ComponentLink4URL: https://datasheet.ciiva.com/7941/444164-7941819.pdf?src-supplier=Element14; ComponentLink4Description: https://datasheet.ciiva.com/7941/444164-7941819.pdf?src-supplier=Element14; ComponentLink5URL: https://datasheet.ciiva.com/7941/444164-7941820.pdf?src-supplier=Element14; ComponentLink5Description: https://datasheet.ciiva.com/7941/444164-7941820.pdf?src-supplier=Element14; ComponentLink6URL: https://datasheet.ciiva.com/2519/pyu-r-int-thick-7-2519844.pdf?src-supplier=Digikey; ComponentLink6Description: https://datasheet.ciiva.com/2519/pyu-r-int-thick-7-2519844.pdf?src-supplier=Digikey
footprint RC0805FR-075K6L
pins: 1, 2

## RC0805FR-07200KL
designator R?  value 200kR  (hidden comment: *)
Fixed Resistor, Metal Glaze/thick Film, 0.125W, 200000ohm, 150V, 1% +/-Tol, 100ppm/Cel, Surface Mount, 0805; Manufacturer: Yageo; Manufacturer Part Number: RC0805FR-07200KL; Additional Feature: LASER TRIMMABLE; Power: 125mW; Rated Temperature: 70°C; Temperature Coefficient (ppm/Cel): 100; Package Height: 0.5mm; Package Length: 2mm; Package Width: 1.25mm; Supplier: Digikey; Supplier Part Number: 311-200KCRCT-ND; RoHS: Yes; Category: Chip SMD Resistors; Stock: 41623; Pricing: 1=0.1, 10=0.012, 100=0.0102, 1000=0.00714, 2500=0.00686 (USD); Mounting Technology: Surface Mount; Pins: 2; Package Shape: Rectangular; Case/Package: 0805; Terminal Finish: Nickel; Min Operating Temperature: -55°C; Max Operating Temperature: 155°C; Tolerance: 1%; JESD-609 Code: e3; Resistor Type: FIXED RESISTOR; Construction: Chip; Packaging: Tape and Reel; Technology: METAL GLAZE/THICK FILM; Termination: Wraparound; Working Voltage: 150V; Reach SVHC Compliant: Yes; RoHS Compliant: Yes; ComponentLink1URL: https://datasheet.ciiva.com:443/pdfs/VipMasterIC/IC/YAGO/YAGO-S-A0008145938/YAGO-S-A0008145938-1.pdf?src-supplier=IHS+Markit; ComponentLink1Description: https://datasheet.ciiva.com:443/pdfs/VipMasterIC/IC/YAGO/YAGO-S-A0008145938/YAGO-S-A0008145938-1.pdf?src-supplier=IHS+Markit; ComponentLink2URL: https://datasheet.ciiva.com/11808/0900766b8106beab-11808861.pdf?src-supplier=Rs; ComponentLink2Description: https://datasheet.ciiva.com/11808/0900766b8106beab-11808861.pdf?src-supplier=Rs; ComponentLink3URL: https://datasheet.ciiva.com/46395/444164-46395126.pdf?src-supplier=Element14; ComponentLink3Description: https://datasheet.ciiva.com/46395/444164-46395126.pdf?src-supplier=Element14; ComponentLink4URL: https://datasheet.ciiva.com/12668/rc0805-12668200.pdf?src-supplier=Mouser; ComponentLink4Description: https://datasheet.ciiva.com/12668/rc0805-12668200.pdf?src-supplier=Mouser; ComponentLink5URL: https://datasheet.ciiva.com/15189/getdatasheetpartid-71710-15189925.pdf?src-supplier=Verical; ComponentLink5Description: https://datasheet.ciiva.com/15189/getdatasheetpartid-71710-15189925.pdf?src-supplier=Verical
footprint RC0805FR-07200KL
pins: 1, 2

## RC0805JR-070RL
designator R?  value 0R  (hidden comment: *)
Metal Glaze/thick Film, 0.125W, 0ohm, Surface Mount, 0805; Manufacturer: Yageo; Manufacturer Part Number: RC0805JR-070RL; Power: 125mW; Rated Temperature: 70°C; Package Height: 0.5mm; Package Length: 2mm; Package Width: 1.25mm; Supplier: Digikey; Supplier Part Number: 311-0.0ARCT-ND; RoHS: Yes; Category: Chip SMD Resistors; Stock: 622959; Pricing: 1=0.1, 10=0.015, 25=0.0128, 50=0.011, 100=0.0097, 250=0.00812, 500=0.00716, 1000=0.00633 (USD); Mounting Technology: Surface Mount; Pins: 2; Package Shape: Rectangular; Case/Package: 0805; Terminal Finish: Nickel; Min Operating Temperature: -55°C; Max Operating Temperature: 155°C; JESD-609 Code: e3; Resistor Type: FIXED RESISTOR; Construction: Chip; Packaging: Tape and Reel; Technology: METAL GLAZE/THICK FILM; Termination: Wraparound; Reach SVHC Compliant: Yes; RoHS Compliant: Yes; ComponentLink1URL: https://datasheet.ciiva.com:443/pdfs/VipMasterIC/IC/YAGO/YAGO-S-A0008145938/YAGO-S-A0008145938-1.pdf?src-supplier=IHS+Markit; ComponentLink1Description: https://datasheet.ciiva.com:443/pdfs/VipMasterIC/IC/YAGO/YAGO-S-A0008145938/YAGO-S-A0008145938-1.pdf?src-supplier=IHS+Markit; ComponentLink2URL: https://datasheet.ciiva.com/7941/1738694-7941861.pdf?src-supplier=Element14; ComponentLink2Description: https://datasheet.ciiva.com/7941/1738694-7941861.pdf?src-supplier=Element14; ComponentLink3URL: https://datasheet.ciiva.com/11819/0900766b8106beab-11819430.pdf?src-supplier=Rs; ComponentLink3Description: https://datasheet.ciiva.com/11819/0900766b8106beab-11819430.pdf?src-supplier=Rs; ComponentLink4URL: https://datasheet.ciiva.com/7941/1738694-7941862.pdf?src-supplier=Element14; ComponentLink4Description: https://datasheet.ciiva.com/7941/1738694-7941862.pdf?src-supplier=Element14; ComponentLink5URL: https://datasheet.ciiva.com/7941/1738694-7941863.pdf?src-supplier=Element14; ComponentLink5Description: https://datasheet.ciiva.com/7941/1738694-7941863.pdf?src-supplier=Element14; ComponentLink6URL: https://datasheet.ciiva.com/15190/getdatasheetpartid-330685-15190028.pdf?src-supplier=Verical; ComponentLink6Description: https://datasheet.ciiva.com/15190/getdatasheetpartid-330685-15190028.pdf?src-supplier=Verical
footprint RC0805JR-070RL
pins: 1, 2

## RC0805JR-0710KL
designator R?  value 10kR  (hidden comment: *)
Fixed Resistor, Metal Glaze/thick Film, 0.125W, 10000ohm, 150V, 5% +/-Tol, 100ppm/Cel, Surface Mount, 0805; Manufacturer: Yageo; Manufacturer Part Number: RC0805JR-0710KL; Additional Feature: LASER TRIMMABLE; Power: 125mW; Rated Temperature: 70°C; Temperature Coefficient (ppm/Cel): 100; Package Height: 0.5mm; Package Length: 2mm; Package Width: 1.25mm; Supplier: Avnet; Supplier Part Number: 80K7383; RoHS: Yes; Category: Chip SMD Resistors; Stock: 270; Pricing: 1=0.014, 30=0.011, 50=0.01, 100=0.008 (USD); Mounting Technology: Surface Mount; Pins: 2; Package Shape: Rectangular; Case/Package: 0805; Terminal Finish: Nickel; Min Operating Temperature: -55°C; Max Operating Temperature: 155°C; Tolerance: 5%; JESD-609 Code: e3; Resistor Type: FIXED RESISTOR; Construction: Chip; Packaging: Tape and Reel; Technology: METAL GLAZE/THICK FILM; Termination: Wraparound; Working Voltage: 150V; Reach SVHC Compliant: Yes; RoHS Compliant: Yes; ComponentLink1URL: https://datasheet.ciiva.com:443/pdfs/VipMasterIC/IC/YAGO/YAGO-S-A0008145938/YAGO-S-A0008145938-1.pdf?src-supplier=IHS+Markit; ComponentLink1Description: https://datasheet.ciiva.com:443/pdfs/VipMasterIC/IC/YAGO/YAGO-S-A0008145938/YAGO-S-A0008145938-1.pdf?src-supplier=IHS+Markit; ComponentLink2URL: https://datasheet.ciiva.com/7983/444164-7983765.pdf?src-supplier=Element14; ComponentLink2Description: https://datasheet.ciiva.com/7983/444164-7983765.pdf?src-supplier=Element14; ComponentLink3URL: https://datasheet.ciiva.com/7941/444164-7941870.pdf?src-supplier=Element14; ComponentLink3Description: https://datasheet.ciiva.com/7941/444164-7941870.pdf?src-supplier=Element14; ComponentLink4URL: https://datasheet.ciiva.com/7941/444164-7941871.pdf?src-supplier=Element14; ComponentLink4Description: https://datasheet.ciiva.com/7941/444164-7941871.pdf?src-supplier=Element14
footprint RC0805JR-0710KL
pins: 1, 2

## RC0805JR-0710RL
designator R?  value 10R  (hidden comment: *)
Fixed Resistor, Metal Glaze/thick Film, 0.125W, 10ohm, 150V, 5% +/-Tol, 200ppm/Cel, Surface Mount, 0805; Manufacturer: Yageo; Manufacturer Part Number: RC0805JR-0710RL; Additional Feature: LASER TRIMMABLE; Power: 125mW; Rated Temperature: 70°C; Temperature Coefficient (ppm/Cel): 200; Package Height: 0.5mm; Package Length: 2mm; Package Width: 1.25mm; Supplier: Digikey; Supplier Part Number: 311-10ARCT-ND; RoHS: Yes; Category: Chip SMD Resistors; Stock: 40173; Pricing: 1=0.1, 10=0.018, 50=0.0168, 100=0.0153, 500=0.01376, 1000=0.01224 (USD); Mounting Technology: Surface Mount; Pins: 2; Package Shape: Rectangular; Case/Package: 0805; Terminal Finish: Nickel; Min Operating Temperature: -55°C; Max Operating Temperature: 155°C; Tolerance: 5%; JESD-609 Code: e3; Resistor Type: FIXED RESISTOR; Construction: Chip; Packaging: Tape and Reel; Technology: METAL GLAZE/THICK FILM; Termination: Wraparound; Working Voltage: 150V; Reach SVHC Compliant: Yes; RoHS Compliant: Yes; ComponentLink1URL: https://datasheet.ciiva.com:443/pdfs/VipMasterIC/IC/YAGO/YAGO-S-A0008145938/YAGO-S-A0008145938-1.pdf?src-supplier=IHS+Markit; ComponentLink1Description: https://datasheet.ciiva.com:443/pdfs/VipMasterIC/IC/YAGO/YAGO-S-A0008145938/YAGO-S-A0008145938-1.pdf?src-supplier=IHS+Markit; ComponentLink2URL: https://datasheet.ciiva.com/2456/pyu-r-int-thick-7-2456041.pdf?src-supplier=Digikey; ComponentLink2Description: https://datasheet.ciiva.com/2456/pyu-r-int-thick-7-2456041.pdf?src-supplier=Digikey; ComponentLink3URL: https://datasheet.ciiva.com/2456/pyu-r-int-thick-7-2456042.pdf?src-supplier=Digikey; ComponentLink3Description: https://datasheet.ciiva.com/2456/pyu-r-int-thick-7-2456042.pdf?src-supplier=Digikey; ComponentLink4URL: https://datasheet.ciiva.com/2456/pyu-r-int-thick-7-2456040.pdf?src-supplier=Digikey; ComponentLink4Description: https://datasheet.ciiva.com/2456/pyu-r-int-thick-7-2456040.pdf?src-supplier=Digikey; ComponentLink5URL: https://datasheet.ciiva.com/12667/rc0805-12667031.pdf?src-supplier=Mouser; ComponentLink5Description: https://datasheet.ciiva.com/12667/rc0805-12667031.pdf?src-supplier=Mouser; ComponentLink6URL: https://datasheet.ciiva.com/46395/444164-46395129.pdf?src-supplier=Element14; ComponentLink6Description: https://datasheet.ciiva.com/46395/444164-46395129.pdf?src-supplier=Element14
footprint RC0805JR-0710RL
pins: 1, 2

## SIM800L
designator J?  (value not drawn)
footprint SIM800L
pins: 01 VCC, 02 RST, 03 RXD, 04 TXD, 05 GND

## SIM808_chip
designator U?, comment SIM808
footprint SIM808_chip
pins: 1 GND (power), 2 GND (power), 3 GND (power), 4 VBAT (power), 5 VBAT (power), 6 VBAT (power), 7 VDD_EXT (out), 8 PWRKEY (in), 9 DTR (in), 10 RI (out), 11 DCD (out), 12 CTS (out), 13 RTS (in), 14 TXD (out), 15 RXD (in), 16 ~{RESET} (in), 17 VRTC (io), 18 GND (power), 19 MIC1P (in), 20 MIC1N (in), 21 SPK1P (out), 22 SPK1N (out), 23 ADC0 (in), 24 ADC1 (in), 25 VCHG (in), 26 USB_DP (io), 27 USB_DN (io), 28 GND (power), 29 SIM_VDD (io), 30 SIM_DATA (io), 31 SIM_CLK (io), 32 SIM_RST (io), 33 SIM_DET (io), 34 GND (power), 35 GPS_ANT (in), 36 GND (power), 37 1PPS (out), 38 SDA (io), 39 SCL (in), 40 GND (power), 41 PWM2 (out), 42 PWM1 (out), 43 GPIO19 (io), 44 GPIO17 (io), 45 PCM_SYNC (out), 46 PCM_CLK (in), 47 PCM_IN (in), 48 PCM_OUT (out), 49 STATUS (out), 50 NETLIGHT (out), 51 GND (power), 52 GND (power), 53 BT_ANT (io), 54 GND (power), 55 KBR3 (out), 56 KBR2 (out), 57 KBR1 (out), 58 KBR0 (out), 59 KBC3 (in), 60 KBC2 (in), 61 KBC1 (in), 62 KBC0 (in), 63 RFSYNC (out), 64 GND (power), 65 GND (power), 66 GSM_ANT (io), 67 GND (power), 68 GND (power)

## SMF12CT1G
designator U?  Manufacturer Part Number: SMF12CT1G  (hidden comment: *)
Trans Voltage Suppressor Diode, 100W, 12V V(RWM), Unidirectional, 5 Element, Silicon; Manufacturer: ON Semiconductor; Package Body Material: Plastic; Max Breakdown Voltage: 15V; Min Breakdown Voltage: 13.3V; Number of Elements: 5; Time @ Peak Reflow Temperature-Max (s): 40s; Breakdown Voltage-Nom: 14.1V; Clamping Voltage-Max: 23V; Qualification Status: Not Qualified; Supplier: Digikey; Supplier Part Number: SMF12CT1GOSCT-ND; RoHS: Yes; Category: ESD and Circuit Protection ICs; Stock: 617; Pricing: 1=0.4, 10=0.237, 100=0.196, 500=0.165, 1000=0.13 (USD); Pins: 6; Diode Element Material: SILICON; Package Shape: Rectangular; Terminal Finish: Tin; Min Operating Temperature: -40°C; Max Operating Temperature: 125°C; JESD-609 Code: e3; Polarity: Unidirectional; Diode Type: TRANS VOLTAGE SUPPRESSOR; JESD-30 Code: R-PDSO-G6; Moisture Sensitivity Level: 1; Non-rep Peak Rev Power Dis-Max: 100W; Package Style: SMALL OUTLINEMeter; Peak Reflow Temperature (Cel): 260°C; Rep Pk Reverse Voltage-Max: 12V; Surface Mount: Yes; Technology: AVALANCHE; Terminal Form: Gull Wing; Terminal Position: DUAL; RoHS Compliant: Yes; Reach SVHC Compliant: Yes; ComponentLink1URL: https://datasheet.ciiva.com:443/pdfs/VipMasterIC/IC/ONSM/ONSM-S-A0003514262/ONSM-S-A0003579834-1.pdf?src-supplier=IHS+Markit; ComponentLink1Description: https://datasheet.ciiva.com:443/pdfs/VipMasterIC/IC/ONSM/ONSM-S-A0003514262/ONSM-S-A0003579834-1.pdf?src-supplier=IHS+Markit; ComponentLink2URL: https://datasheet.ciiva.com/4513/smf05c-d-100912-4513248.pdf?src-supplier=Mouser; ComponentLink2Description: https://datasheet.ciiva.com/4513/smf05c-d-100912-4513248.pdf?src-supplier=Mouser; ComponentLink3URL: https://datasheet.ciiva.com/353/smf05c-d-353902.pdf?src-supplier=Digikey; ComponentLink3Description: https://datasheet.ciiva.com/353/smf05c-d-353902.pdf?src-supplier=Digikey; ComponentLink4URL: https://datasheet.ciiva.com/353/smf05c-d-353903.pdf?src-supplier=Digikey; ComponentLink4Description: https://datasheet.ciiva.com/353/smf05c-d-353903.pdf?src-supplier=Digikey; ComponentLink5URL: https://datasheet.ciiva.com/11193/smf05c-d-11193402.pdf?src-supplier=Avnet; ComponentLink5Description: https://datasheet.ciiva.com/11193/smf05c-d-11193402.pdf?src-supplier=Avnet
footprint SMF12CT1G
pins: 1 (io), 2 GND (power), 3 (io), 4 (io), 5 (io), 6 (io)

## Speaker
designator S?  (value not drawn)
footprint Speaker
pins: N, P 0
text: +; -

## TAJB107M010RNJ
designator C?  value 100uF  (hidden comment: *)
Tantalum Capacitor, Polarized, Tantalum (dry/solid), 4V, 20% +Tol, 20% -Tol, 100uF, Surface Mount, 1306; Manufacturer: KEMET; Manufacturer Part Number: T491A107M004AT; ESR (Equivalent Series Resistance): 4R; Leakage Current: 4uA; Tan Delta: 0.3; Ripple Current: 54.8mA; Supplier: Digikey; Supplier Part Number: 399-3688-1-ND; RoHS: Yes; Category: Tantalum Capacitors; Stock: 15103; Pricing: 1=0.72, 10=0.449, 50=0.3436, 100=0.3109, 500=0.25594, 1000=0.23895 (USD); Mounting Technology: Surface Mount; Pins: 2; Dielectric Material: Tantalum; Package Shape: Rectangular; Case/Package: 1206; Terminal Finish: Nickel; Min Operating Temperature: -55°C; Max Operating Temperature: 125°C; JESD-609 Code: e3; Polarity: Polarized; Capacitor Type: Tantalum; Tolerance  (fill in as +-): 20%; Package Style: SMTMeter; Packaging: Tape and Reel; Tolerance (fill in as +-): 20%; Rated DC Voltage (URdc): 4V; Termination: J BEND; Length: 3.2mm; Width: 1.6mm; Height: 1.6mm; Reach SVHC Compliant: Yes; RoHS Compliant: Yes; ComponentLink1URL: https://datasheet.ciiva.com:443/pdfs/VipMasterIC/IC/KEME/KEME-S-A0009782355/KEME-S-A0009782355-1.pdf?src-supplier=IHS+Markit; ComponentLink1Description: https://datasheet.ciiva.com:443/pdfs/VipMasterIC/IC/KEME/KEME-S-A0009782355/KEME-S-A0009782355-1.pdf?src-supplier=IHS+Markit; ComponentLink2URL: https://datasheet.ciiva.com/14103/t491serie-eng-tds-14103975.pdf?src-supplier=Distrelec; ComponentLink2Description: https://datasheet.ciiva.com/14103/t491serie-eng-tds-14103975.pdf?src-supplier=Distrelec; ComponentLink3URL: https://datasheet.ciiva.com/7851/1854511-7851162.pdf?src-supplier=Element14; ComponentLink3Description: https://datasheet.ciiva.com/7851/1854511-7851162.pdf?src-supplier=Element14; ComponentLink4URL: https://datasheet.ciiva.com/46417/1854511-46417596.pdf?src-supplier=Element14; ComponentLink4Description: https://datasheet.ciiva.com/46417/1854511-46417596.pdf?src-supplier=Element14; ComponentLink5URL: https://datasheet.ciiva.com/258/kem-t2005-t491-258170.pdf?src-supplier=Digikey; ComponentLink5Description: https://datasheet.ciiva.com/258/kem-t2005-t491-258170.pdf?src-supplier=Digikey; ComponentLink6URL: https://datasheet.ciiva.com/258/kem-t2005-t491-258169.pdf?src-supplier=Digikey; ComponentLink6Description: https://datasheet.ciiva.com/258/kem-t2005-t491-258169.pdf?src-supplier=Digikey; ComponentLink7URL: https://datasheet.ciiva.com/258/kem-t2005-t491-258171.pdf?src-supplier=Digikey; ComponentLink7Description: https://datasheet.ciiva.com/258/kem-t2005-t491-258171.pdf?src-supplier=Digikey; ComponentLink8URL: https://datasheet.ciiva.com/14589/70095774-14589211.pdf?src-supplier=Allied+Electronics; ComponentLink8Description: https://datasheet.ciiva.com/14589/70095774-14589211.pdf?src-supplier=Allied+Electronics; ComponentLink9URL: https://datasheet.ciiva.com/14606/70095774-14606061.pdf?src-supplier=Allied+Electronics; ComponentLink9Description: https://datasheet.ciiva.com/14606/70095774-14606061.pdf?src-supplier=Allied+Electronics
footprint TAJB107M010RNJ
pins: 1, 2

## TLLR4400
designator D?, comment LED
LED; Red; 1.2mcd; 3.2mmDia.; T-1; 7mA; 1.9V; 635nm; +/-25deg; GaAsP on GaP; 15V; Manufacturer: Vishay; Manufacturer Part Number: TLLR4400; Supplier: Arrow Electronics; Supplier Part Number: TLLR4400; RoHS: No; Category: LEDs; Stock: 6346; Pricing: 1=0.4975, 10=0.3483, 100=0.26, 500=0.2194, 1000=0.2024, 5000=0.19, 10000=0.156, 25000=0.1526 (USD); ComponentLink1URL: https://datasheet.ciiva.com/11774/0900766b80e22d14-11774062.pdf?src-supplier=Rs; ComponentLink1Description: https://datasheet.ciiva.com/11774/0900766b80e22d14-11774062.pdf?src-supplier=Rs
footprint TLLR4400
pins: A, K C

## TLV75733PDRVR
designator U?  Manufacturer Part Number: TLV75733PDRVR  (hidden comment: *)
Fixed Positive LDO Regulator, 3.3V, 0.475V Dropout, PDSO6; Manufacturer: Texas Instruments; Regulator Type: FIXED POSITIVE SINGLE OUTPUT LDO REGULATOR; Supplier: Digikey; Supplier Part Number: 296-49281-1-ND; RoHS: Yes; Category: Voltage Regulators - Linear; Stock: 3058; Pricing: 1=0.36, 10=0.248, 25=0.2208, 100=0.1905, 250=0.17608, 500=0.1674, 1000=0.16022 (USD); Terminal Finish: Nickel; JESD-609 Code: e4; Moisture Sensitivity Level: 1; Peak Reflow Temperature (Cel): 260°C; Reach SVHC Compliant: Yes; RoHS Compliant: Yes; ComponentLink1URL: https://www.ti.com:443/lit/ds/symlink/tlv757p.pdf?src-supplier=IHS+Markit; ComponentLink1Description: https://www.ti.com:443/lit/ds/symlink/tlv757p.pdf?src-supplier=IHS+Markit; ComponentLink2URL: http://www.ti.com/lit/ds/symlink/tlv757p.pdf?src-supplier=Digikey; ComponentLink2Description: http://www.ti.com/lit/ds/symlink/tlv757p.pdf?src-supplier=Digikey
footprint TLV75733PDRVR
pins: 1 OUT (power), 2 NC, 3 GND (power), 4 EN (in), 5 NC, 6 IN (in), 7 EXP (power)

## TLV75801PDRVR
designator U?  Manufacturer Part Number: TLV75801PDRVR  (hidden comment: *)
Adjustable Positive LDO Regulator, 0.55V Min, 5.5V Max, PDSO6; Manufacturer: Texas Instruments; Regulator Type: ADJUSTABLE POSITIVE SINGLE OUTPUT LDO REGULATOR; Supplier: Mouser; Supplier Part Number: 595-TLV75801PDRVR; RoHS: Yes; Category: Voltage Regulators - Linear; Stock: 8824; Pricing: 1=0.25, 10=0.169, 50=0.15, 100=0.129, 1000=0.107, 10000=0.094 (USD); Terminal Finish: Nickel; JESD-609 Code: e4; Moisture Sensitivity Level: 1; Reach SVHC Compliant: Yes; RoHS Compliant: Yes; ComponentLink1URL: https://www.ti.com:443/lit/ds/symlink/tlv758p.pdf?src-supplier=IHS+Markit; ComponentLink1Description: https://www.ti.com:443/lit/ds/symlink/tlv758p.pdf?src-supplier=IHS+Markit
footprint TLV75801PDRVR
pins: 1 OUT (out), 2 FB (io), 3 GND (power), 4 EN (io), 5 DNC (io), 6 IN (in)

## TP4056_chip
designator U?, comment TP4056
footprint TP4056_chip
pins: 1 TEMP (in), 2 PROG (io), 3 GND (power), 4 VCC (power), 5 BAT (out), 6 ~{STDBY} (out), 7 ~{CHRG} (out), 8 CE (in), 9 EP

## U.FL-R-SMT-1(01)
designator J?  Manufacturer Part Number: U.FL-R-SMT-1(01)  (hidden comment: *)
RF Connector, 1 Contact(s), Male, Board Mount, Surface Mount Terminal, Receptacle; Manufacturer: Hirose; Option: General Purpose; Characteristic Impedance: 50R; Coupling Type: Snap; Dielectric Withstanding Voltage (AC): 200V; Durability: 30Cycles; Filter Feature: No; Insulation Resistance: 500MR; Mating Information: MULTIPLE MATING PARTS AVAILABLE; Number of Ports: 1; Operating Frequency-Max: 6GHz; Panel Mount: No; VSWR: 1.5; Insertion Loss: 0.05dB; Body Depth: 0.049inch; Mounting Option 1: LOCKING; Body Breadth: 0.122inch; Body Length: 0.118inch; Reference Standard: UL; Reliability: COMMERCIAL; Supplier: Digikey; Supplier Part Number: 26-U.FL-R-SMT-1(01)-ND; RoHS: Yes; Category: RF / Coaxial Connectors; Stock: 15268; Pricing: 1=1.29, 10=1.098, 25=1.0288, 50=0.9794, 100=0.9327, 300=0.863, 500=0.83244, 1000=0.7927, 2500=0.74308 (USD); Mounting Technology: Board; Contact Finish - Mating: TIN; Contact Finish - Termination: TIN; Insulation Material: Polymer; Shell Finish: Silver; Shell Material: CuSn; Contact Material: Copper Alloy; Min Operating Temperature: -40°C; Max Operating Temperature: 90°C; Connector Type: RF CONNECTOR; JESD-609 Code: e3; Body/Shell Style: RECEPTACLE; Contact Gender: Male; Mounting Style: STRAIGHT; Termination: SMD/SMT; Number of Contacts: 1; Reach SVHC Compliant: Yes; RoHS Compliant: Yes; DIN Conformance: No; IEC Conformance: No; MIL Conformance: No; ComponentLink1URL: https://datasheet.ciiva.com:443/pdfs/VipMasterIC/IC/HIRO/HIRO-S-A0007913874/HIRO-S-A0009147602-1.pdf?src-supplier=IHS+Markit; ComponentLink1Description: https://datasheet.ciiva.com:443/pdfs/VipMasterIC/IC/HIRO/HIRO-S-A0007913874/HIRO-S-A0009147602-1.pdf?src-supplier=IHS+Markit; ComponentLink2URL: https://datasheet.ciiva.com/26945/getdatasheetpartid-475239-26945414.pdf?src-supplier=Verical; ComponentLink2Description: https://datasheet.ciiva.com/26945/getdatasheetpartid-475239-26945414.pdf?src-supplier=Verical
footprint U.FL-R-SMT(01)
pins: 1 GND, 2 GND, 3 SIG